# Altium footprint library SOT-89-3.PcbLib: 1 footprints
Each footprint in its own frame and in the unit in brackets; x right, y up, seen from the top. Pads: shape width x height; smd on the part's side, far side on the other; paste and mask are expansions set on the pad; w line width, h text height; cw(c..) or ccw(c..) is an arc to the next point about the centre after c.
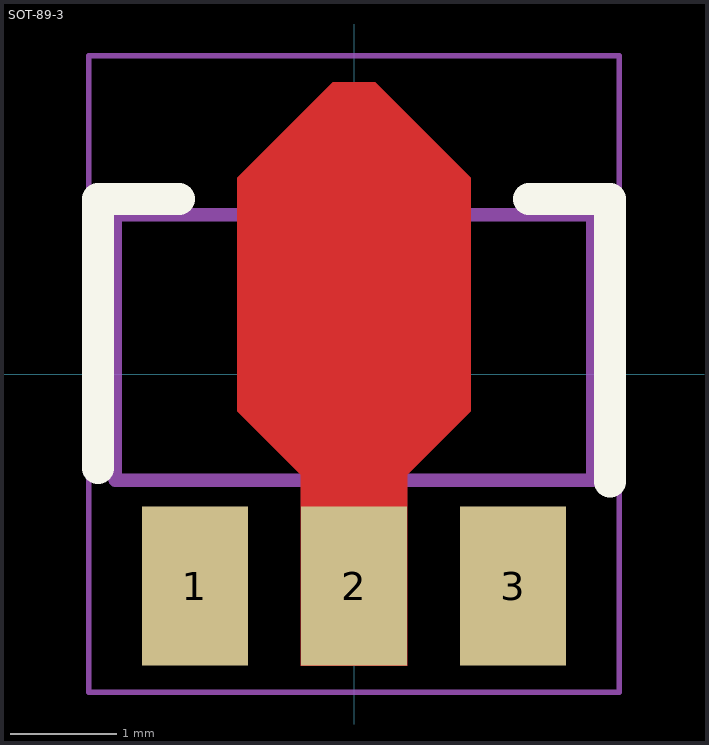
[diagram p0: the footprint, top view; thin cyan lines are the x and y axes]

## SOT-89-3 [mm]
pads (3):
  rect 1x1.5 smd: 1(-1.5,-2) 3(1.5,-2)
  rect 1x1.5 smd paste-2 mask+0: 2(0,-2)
Top Layer:
  region: 1.1,1.85 1.1,-0.35 0.5,-0.95 0.5,-2.75 -0.5,-2.75 -0.5,-0.95 -1.1,-0.35 -1.1,1.85 -0.2,2.75 0.2,2.75
Top Overlay:
  lines w0.3: -2.413,-0.889 -2.413,1.651 -1.651,1.651 ; 1.651,1.651 2.413,1.651 2.413,-1.016
Top Paste:
  region: 1.1,1.85 1.1,-0.35 0.5,-0.95 0.5,-2.75 -0.5,-2.75 -0.5,-0.95 -1.1,-0.35 -1.1,1.85 -0.2,2.75 0.2,2.75
Top Solder:
  region: 1.2,1.85 1.2,-0.35 0.6,-0.95 0.6,-2.85 -0.6,-2.85 -0.6,-0.95 -1.2,-0.35 -1.2,1.85 -0.2,2.85 0.2,2.85
Mechanical 13:
  lines w0.127: -2.25,-1 -2.25,1.5 2.25,1.5 2.25,-1 -2.25,-1
Mechanical 15:
  lines w0.05: -2.5,-3 -2.5,3 2.5,3 2.5,-3 -2.5,-3